# Altium footprint library SK-14D01-G 6.PcbLib: 1 footprints
Each footprint in its own frame and in the unit in brackets; x right, y up, seen from the top. Pads: shape width x height; smd on the part's side, far side on the other; paste and mask are expansions set on the pad; w line width, h text height; cw(c..) or ccw(c..) is an arc to the next point about the centre after c.
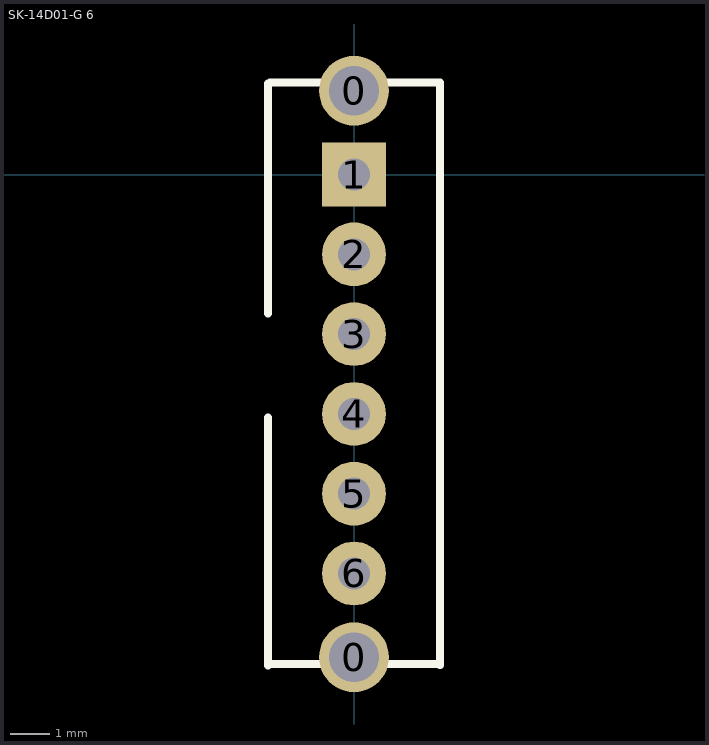
[diagram p0: the footprint, top view; thin cyan lines are the x and y axes]

## SK-14D01-G 6 [mm]
pads (8):
  round 1.75 hole 1.25: 0(0,-12.1) 0(0,2.1)
  rect 1.6x1.6 hole 0.8: 1(0,0)
  round 1.6 hole 0.8: 2(0,-2) 3(0,-4) 4(0,-6) 5(0,-8) 6(0,-10)
Top Overlay:
  lines w0.2: -2.159,2.286 -2.152,-3.48 ; -2.15,-12.308 -2.15,-6.096 ; -2.108,-12.268 2.159,-12.268 ; -2.108,2.311 2.159,2.311 ; 2.15,-12.3 2.15,2.3